# Altium footprint library MEM2051-00-195-00-A.PcbLib: 1 footprints
Each footprint in its own frame and in the unit in brackets; x right, y up, seen from the top. Pads: shape width x height; smd on the part's side, far side on the other; paste and mask are expansions set on the pad; w line width, h text height; cw(c..) or ccw(c..) is an arc to the next point about the centre after c.
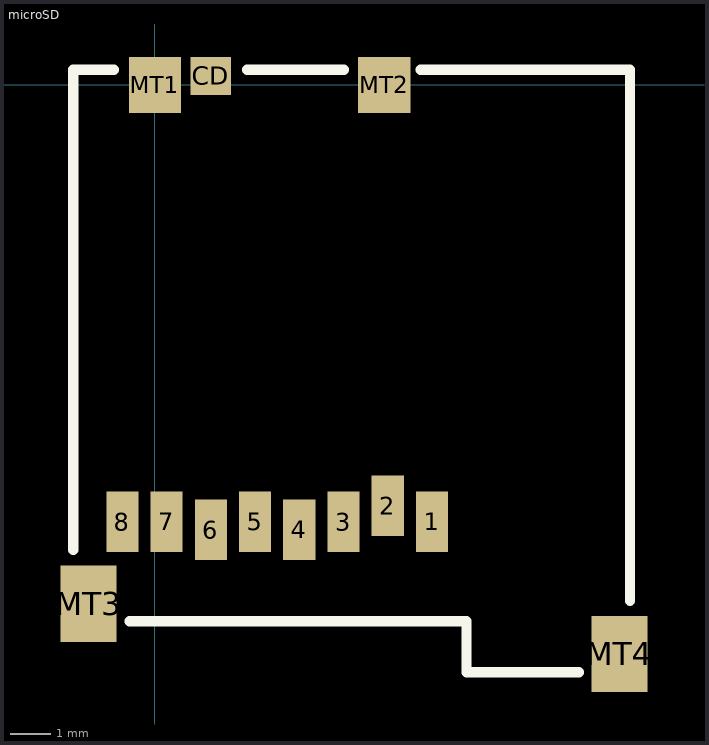
[diagram p0: the footprint, top view; thin cyan lines are the x and y axes]

## microSD [mm]
pads (13):
  rect 0.8x1.5 smd: 1(6.89,-10.86) 2(5.79,-10.46) 3(4.69,-10.86) 4(3.59,-11.06) 5(2.49,-10.86) 6(1.39,-11.06) 7(0.29,-10.86) 8(-0.81,-10.86)
  rect 1x0.95 smd: CD(1.39,0.225)
  rect 1.3x1.4 smd: MT1(0,0) MT2(5.7,0)
  rect 1.4x1.9 smd: MT3(-1.65,-12.9) MT4(11.55,-14.15)
Top Overlay:
  lines w0.254: -2.032,-11.557 -2.032,0.381 -1.016,0.381 ; -0.635,-13.335 7.747,-13.335 7.747,-14.605 10.541,-14.605 ; 2.286,0.381 4.699,0.381 ; 6.604,0.381 11.811,0.381 11.811,-12.827
3D body "microSD - MEM2051.stp": height 1.95, standoff 0.07, extent -2.097,-14.692 12.003,0.508